# EAGLE library part PIN2X5 (library Connector)
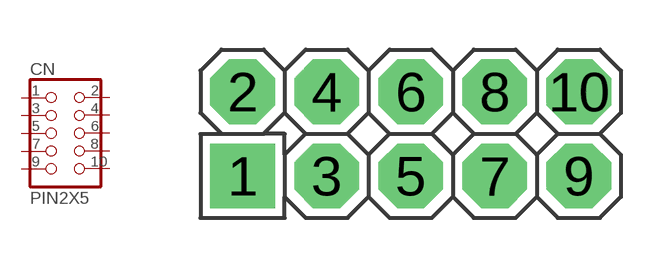
[diagram p12: symbol with the pads of PIN2X5; footprint PIN2X5]

Designator prefix CN

## PIN2X5  [PIN2X5]
1  1  pas
2  2  pas
3  3  pas
4  4  pas
5  5  pas
6  6  pas
7  7  pas
8  8  pas
9  9  pas
10  10  pas

## Footprint PIN2X5 (pad centres in mm)
drill 1.3 square: 1 -5.08,-1.27
drill 1.3 octagon: 2 -5.08,1.27; 3 -2.54,-1.27; 4 -2.54,1.27; 5 0,-1.27; 6 0,1.27; 7 2.54,-1.27; 8 2.54,1.27; 9 5.08,-1.27; 10 5.08,1.27